# EAGLE library part ACPL-247-500E (library trafshlib)
Broadcom ACPL-247-500E DC Input Transistor Output Quad Optocoupler, Surface Mount, 16-Pin SOIC Source: Datasheet <http://uk.rs-online.com/webdocs/0db7/0900766b80db7ce4.pdf>
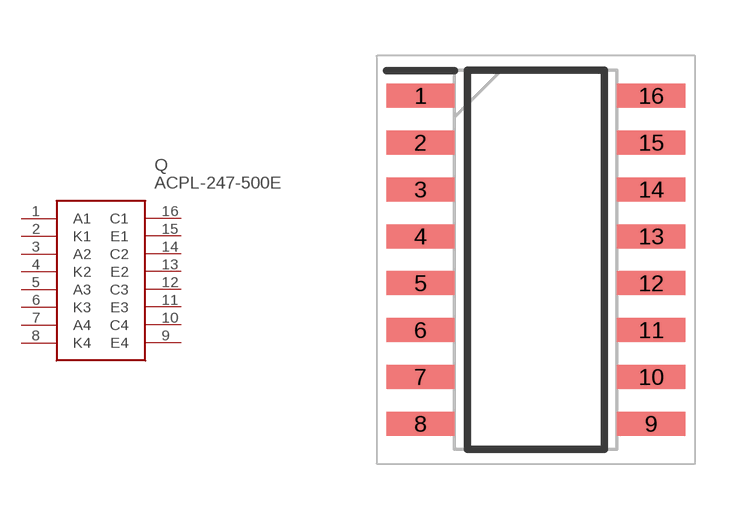
[diagram p24: symbol with the pads of SOIC127P700X242-16N; footprint SOIC127P700X242-16N]

Designator prefix Q

## ACPL-247-500E (DESCRIPTION: Broadcom ACPL-247-500E DC Input Transistor Output Quad Optocoupler, Surface Mount, 16-Pin SOIC; HEIGHT: 2.42mm; MANUFACTURER_NAME: Avago Technologies; MANUFACTURER_PART_NUMBER: ACPL-247-500E; MOUSER_PART_NUMBER: 630-ACPL-247-500E; MOUSER_PRICE-STOCK: https://www.mouser.com/Search/Refine.aspx?Keyword=630-ACPL-247-500E; RS_PART_NUMBER: 6936807P; RS_PRICE-STOCK: http://uk.rs-online.com/web/p/products/6936807P)  [SOIC127P700X242-16N]
1  A1
2  K1
3  A2
4  K2
5  A3
6  K3
7  A4
8  K4
9  E4
10  C4
11  E3
12  C3
13  E2
14  C2
15  E1
16  C1

## Footprint SOIC127P700X242-16N (pad centres in mm)
ACPL-247
smd 1.85 x 0.65: 1 -3.125,4.445; 2 -3.125,3.175; 3 -3.125,1.905; 4 -3.125,0.635; 5 -3.125,-0.635; 6 -3.125,-1.905; 7 -3.125,-3.175; 8 -3.125,-4.445; 9 3.125,-4.445; 10 3.125,-3.175; 11 3.125,-1.905; 12 3.125,-0.635; 13 3.125,0.635; 14 3.125,1.905; 15 3.125,3.175; 16 3.125,4.445